# Altium schematic symbol library Schlib1.SchLib: 39 symbols (part 1 of 2)
Pins are listed as number, name and electrical type; pins without a type are passive.

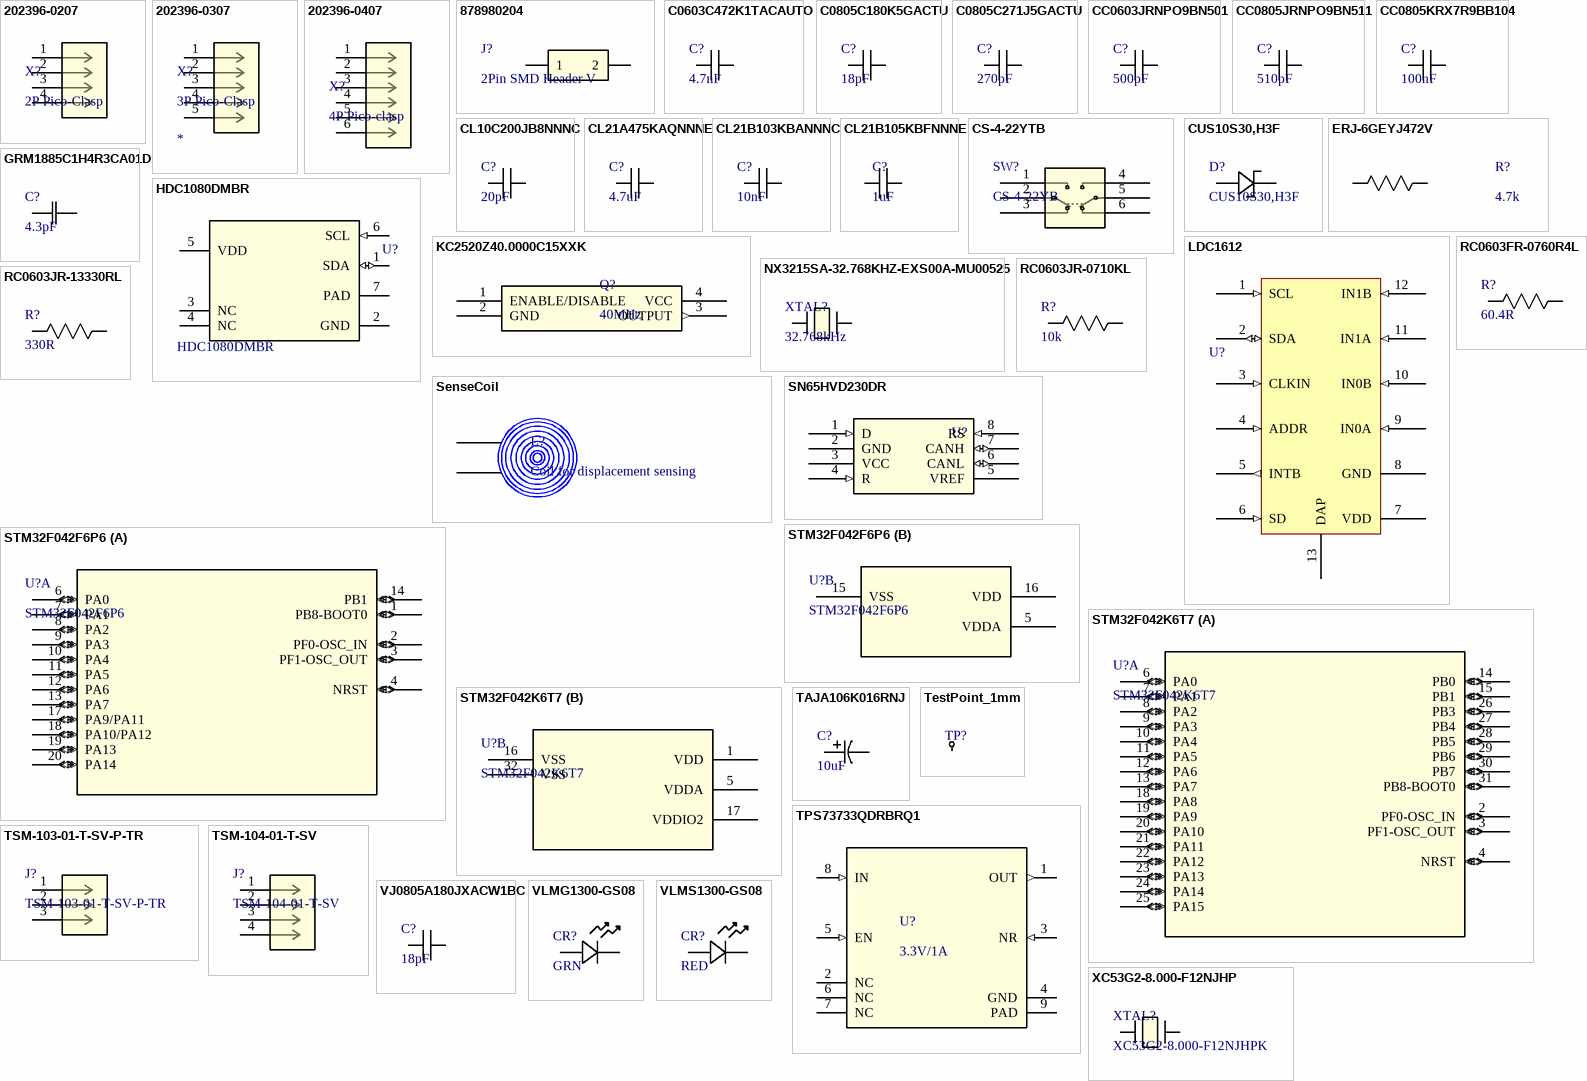
[diagram p0: symbols 202396-0207 to XC53G2-8.000-F12NJHP]

## 202396-0207
designator X?, comment 2P Pico-Clasp
Conn Shrouded Header (4 Sides) HDR 2 POS 1mm Solder RA Side Entry SMD Pico-Clasp™ T/R; Manufacturer: Molex; Manufacturer Part Number: 202396-0207; Number of Positions: 2; Value: 2023960207; Supplier: Digi-Key; Supplier Part Number: WM26783CT-ND; RoHS: No; Category: Headers and Wire Housings; Stock: 6710; Pricing: 1=0.97, 10=0.804, 100=0.6698 (USD); Mounting Technology: Surface Mount; Contact Material: Bronze; Contact Shape: Square; Insulation Material: Nylon; Insulation Color: Natural; Contact Finish - Mating: GOLD; Min Operating Temperature: -40°C; Max Operating Temperature: 105°C; Connector Type: Header; Fastening Type: Latch; Packaging: Tape and Reel; Number of Rows: 1; Termination: Solder; Series: Pico-Clasp 202396; Contact Type: Male Pin; Flammability Rating: UL94 V-0; ComponentLink1URL: http://datasheet.octopart.com/2023960207-Molex-datasheet-147952241.pdf?src-supplier=Digi-Key; ComponentLink1Description: http://datasheet.octopart.com/2023960207-Molex-datasheet-147952241.pdf?src-supplier=Digi-Key; ComponentLink2URL: https://www.molex.com/pdm_docs/sd/2023960207_sd.pdf?src-supplier=Digi-Key; ComponentLink2Description: https://www.molex.com/pdm_docs/sd/2023960207_sd.pdf?src-supplier=Digi-Key; ComponentLink3URL: http://datasheet.octopart.com/2023960207-Molex-datasheet-147952241.pdf?src-supplier=Newark; ComponentLink3Description: http://datasheet.octopart.com/2023960207-Molex-datasheet-147952241.pdf?src-supplier=Newark; ComponentLink4URL: http://datasheet.octopart.com/2023960207-Molex-datasheet-147952241.pdf?src-supplier=Farnell; ComponentLink4Description: http://datasheet.octopart.com/2023960207-Molex-datasheet-147952241.pdf?src-supplier=Farnell; ComponentLink5URL: http://datasheet.octopart.com/2023960207-Molex-datasheet-147952241.pdf?src-supplier=Avnet; ComponentLink5Description: http://datasheet.octopart.com/2023960207-Molex-datasheet-147952241.pdf?src-supplier=Avnet; ComponentLink6URL: http://datasheet.octopart.com/2023960207-Molex-datasheet-147952241.pdf?src-supplier=Arrow+Electronics; ComponentLink6Description: http://datasheet.octopart.com/2023960207-Molex-datasheet-147952241.pdf?src-supplier=Arrow+Electronics; ComponentLink7URL: http://datasheet.octopart.com/2023960207-Molex-datasheet-147952241.pdf?src-supplier=TTI; ComponentLink7Description: http://datasheet.octopart.com/2023960207-Molex-datasheet-147952241.pdf?src-supplier=TTI; ComponentLink8URL: http://datasheet.octopart.com/2023960207-Molex-datasheet-147952241.pdf?src-supplier=Electro+Sonic; ComponentLink8Description: http://datasheet.octopart.com/2023960207-Molex-datasheet-147952241.pdf?src-supplier=Electro+Sonic; ComponentLink9URL: https://datasheet.octopart.com/202396-0207-Molex-datasheet-134623761.pdf?src-supplier=TME; ComponentLink9Description: https://datasheet.octopart.com/202396-0207-Molex-datasheet-134623761.pdf?src-supplier=TME; LCSC Part#: C585325
footprint CON_2023960207
pins: 1, 2, 3, 4

## 202396-0307
designator X?, comment 3P Pico-Clasp
1.00mm Pitch, Pico-Clasp PCB Header, Single Row, Right-Angle, Surface Mount, 0.10µm Gold Plated, Friction Lock, 3...; Manufacturer: Molex; Manufacturer Part Number: 202396-0307; Value: 2023960307; Supplier: Digi-Key; Supplier Part Number: WM26784CT-ND; RoHS: No; Category: Headers and Wire Housings; Stock: 23675; Pricing: 1=1.01, 10=0.832, 100=0.6937 (USD); LCSC Part#: *
footprint CON_2023960307
pins: 1, 2, 3, 4, 5

## 202396-0407
designator X?, comment 4P Pico-clasp
Conn Shrouded Header (4 Sides) HDR 4 POS 1mm Solder RA SMD Pico-Clasp™ T/R; Manufacturer: Molex; Manufacturer Part Number: 202396-0407; Number of Positions: 4; Value: 2023960407; Supplier: Digi-Key; Supplier Part Number: WM26785CT-ND; RoHS: No; Category: Headers and Wire Housings; Stock: 4338; Pricing: 1=1.05, 10=0.869, 100=0.7238 (USD); Mounting Technology: Surface Mount; Contact Material: Bronze; Contact Shape: Square; Insulation Material: Nylon; Insulation Color: Natural; Contact Finish - Mating: GOLD; Min Operating Temperature: -40°C; Max Operating Temperature: 105°C; Connector Type: Header; Fastening Type: Latch; Packaging: Tape and Reel; Number of Rows: 1; Termination: Solder; Series: Pico-Clasp 202396; Contact Type: Male Pin; Flammability Rating: UL94 V-0; ComponentLink1URL: http://datasheet.octopart.com/202396-0407-Molex-datasheet-134623761.pdf?src-supplier=Avnet; ComponentLink1Description: http://datasheet.octopart.com/202396-0407-Molex-datasheet-134623761.pdf?src-supplier=Avnet; ComponentLink2URL: https://www.molex.com/pdm_docs/sd/2023960407_sd.pdf?src-supplier=Digi-Key; ComponentLink2Description: https://www.molex.com/pdm_docs/sd/2023960407_sd.pdf?src-supplier=Digi-Key; ComponentLink3URL: http://datasheet.octopart.com/202396-0407-Molex-datasheet-134623761.pdf?src-supplier=Digi-Key; ComponentLink3Description: http://datasheet.octopart.com/202396-0407-Molex-datasheet-134623761.pdf?src-supplier=Digi-Key; ComponentLink4URL: http://datasheet.octopart.com/202396-0407-Molex-datasheet-134623761.pdf?src-supplier=Farnell; ComponentLink4Description: http://datasheet.octopart.com/202396-0407-Molex-datasheet-134623761.pdf?src-supplier=Farnell; ComponentLink5URL: http://datasheet.octopart.com/202396-0407-Molex-datasheet-134623761.pdf?src-supplier=Newark; ComponentLink5Description: http://datasheet.octopart.com/202396-0407-Molex-datasheet-134623761.pdf?src-supplier=Newark; ComponentLink6URL: http://datasheet.octopart.com/202396-0407-Molex-datasheet-134623761.pdf?src-supplier=Mouser; ComponentLink6Description: http://datasheet.octopart.com/202396-0407-Molex-datasheet-134623761.pdf?src-supplier=Mouser; ComponentLink7URL: http://datasheet.octopart.com/202396-0407-Molex-datasheet-134623761.pdf?src-supplier=Heilind+Electronics; ComponentLink7Description: http://datasheet.octopart.com/202396-0407-Molex-datasheet-134623761.pdf?src-supplier=Heilind+Electronics; ComponentLink8URL: http://datasheet.octopart.com/202396-0407-Molex-datasheet-134623761.pdf?src-supplier=Electro+Sonic; ComponentLink8Description: http://datasheet.octopart.com/202396-0407-Molex-datasheet-134623761.pdf?src-supplier=Electro+Sonic; LCSC Part#: *
footprint CON_2023960407
pins: 1, 2, 3, 4, 5, 6

## 878980204
designator J?, comment 2Pin SMD Header V
CONN BREAKAWAY SMD HDR 2POS; Mfr_Name: Molex Connector Corporation; Manufacturer_Part_Number: 878980204; Manufacturer: Molex; Manufacturer Part Number: 87898-0204; Number of Positions: 2; Gender: Male; Current Rating: 3A; Voltage Rating: 250V; Pitch: 2.54mm; Value: 878980204; Copyright: Copyright (C) 2023 Ultra Librarian. All rights reserved.; RefDes: RefDes; Type: DEV; Supplier: Digi-Key; Supplier Part Number: WM9852-ND; RoHS: Yes; Category: Headers and Wire Housings; Stock: 21020; Pricing: 1=0.68, 10=0.57, 80=0.4435, 945=0.34847, 7200=0.30623, 14400=0.28088 (USD); Mounting Technology: Surface Mount; Contact Plating: Gold; Contact Material: Copper Alloy; Housing Material: Nylon; Min Operating Temperature: -55°C; Max Operating Temperature: 105°C; Number of Rows: 1; Packaging: Tray; Termination: SMD/SMT; Orientation: Straight; Series: 87898; Contact Gender: Male; Number of Contacts: 2; Contact Mating Length: 5.84mm; RoHS Compliant: Yes; ComponentLink1URL: https://datasheet.ciiva.com/5161/0878980204-pcb-headers-176698-5161963.pdf?src-supplier=Mouser; ComponentLink1Description: https://datasheet.ciiva.com/5161/0878980204-pcb-headers-176698-5161963.pdf?src-supplier=Mouser; ComponentLink2URL: https://datasheet.ciiva.com/16109/978120878980204-pcb-headers-16109649.pdf?src-supplier=Onlinecomponents.com; ComponentLink2Description: https://datasheet.ciiva.com/16109/978120878980204-pcb-headers-16109649.pdf?src-supplier=Onlinecomponents.com; ComponentLink3URL: https://datasheet.ciiva.com/30116/0878980204-pcb-headers-30116283.pdf?src-supplier=Onlinecomponents.com; ComponentLink3Description: https://datasheet.ciiva.com/30116/0878980204-pcb-headers-30116283.pdf?src-supplier=Onlinecomponents.com; LCSC Part#: C3331260
footprint 87898-0204_MOL
pins: 1, 2

## C0603C472K1TACAUTO
designator C?, comment 4.7nF
Cap Cer 0603 4.7NF 100VDC X8G; Manufacturer: KEMET; Manufacturer Part Number: C0603C472K1TACAUTO; Supplier: Digi-Key; Supplier Part Number: 399-C0603C472K1TACAUTOCT-ND; RoHS: No; Category: Ceramic Capacitors; Stock: 10636; Pricing: 1=0.42, 10=0.284, 50=0.2264, 100=0.1869, 500=0.14604, 1000=0.12414 (USD); Value: 4.7nF 100V; LCSC Part#: C3882427; Package: 0603
footprint C0603
pins: 1, 2

## C0805C180K5GACTU
designator C?, comment 18pF
Multilayer Ceramic Capacitor, 18 pF, 50 V, ± 10%, C0G (NP0), 0805 [2012 Metric]; Manufacturer: KEMET; Manufacturer Part Number: C0805C180K5GACTU; Material: 4241ConductorMaterial; Value: 18pF 50V; Voltage Rating: 50V; Dissipation Factor: 0.1%; Temperature Coefficient: 30ppm/°C; Supplier: Digi-Key; Supplier Part Number: 399-C0805C180K5GAC7800CT-ND; RoHS: Yes; Category: Ceramic Capacitors; Stock: 62775; Pricing: 1=0.1, 10=0.069, 50=0.0394, 100=0.0305, 500=0.02298, 1000=0.01805 (USD); Mounting Technology: Surface Mount; Case/Package: 0805; Case Code (Metric): 2012; Case Code (Imperial): 0805; Contact Plating: Tin,Matte; Dielectric Material: 4241ConductorMaterial; Min Operating Temperature: -55°C; Max Operating Temperature: 125°C; Tolerance: 10%; Dielectric: C0G; Package Quantity: 1; Packaging: Tape and Reel; Voltage Rating (DC): 50V; Termination: SMD/SMT; Series: C; Construction: Flat; Length: 2mm; Width: 0.049inch; Height: 0.78mm; Depth: 1.25mm; Thickness: 0.035inch; Lead Pitch: 0.75mm; Radiation Hardening: No; Reach SVHC Compliant: No; Lead Free: 5697LeadFree; ComponentLink1URL: https://datasheet.ciiva.com/5412/kem-c1003-c0g-smd-356956-5412921.pdf?src-supplier=Mouser; ComponentLink1Description: https://datasheet.ciiva.com/5412/kem-c1003-c0g-smd-356956-5412921.pdf?src-supplier=Mouser; ComponentLink2URL: https://datasheet.ciiva.com/26847/getdatasheetpartid-742486-26847863.pdf?src-supplier=Verical; ComponentLink2Description: https://datasheet.ciiva.com/26847/getdatasheetpartid-742486-26847863.pdf?src-supplier=Verical; LCSC Part#: C3843327; Package: 0805
footprint CAP0805
pins: 1, 2

## C0805C271J5GACTU
designator C?, comment 270pF
Multilayer Ceramic Capacitor, 270 pF, 50 V, ± 5%, C0G (NP0), 0805 [2012 Metric]; Manufacturer: KEMET; Manufacturer Part Number: C0805C271J5GACTU; Material: 4241ConductorMaterial; Value: 270pF 50V; Voltage Rating: 50V; Dissipation Factor: 0.1%; Temperature Coefficient: 30ppm/°C; Supplier: Digi-Key; Supplier Part Number: 399-C0805C271J5GAC7800CT-ND; RoHS: Yes; Category: Ceramic Capacitors; Stock: 485495; Pricing: 1=0.11, 10=0.075, 50=0.045, 100=0.0355, 500=0.02618, 1000=0.02168 (USD); Mounting Technology: Surface Mount,PCB; Case/Package: 0805; Case Code (Metric): 2012; Case Code (Imperial): 0805; Dielectric Material: Ceramic; Min Operating Temperature: -55°C; Max Operating Temperature: 125°C; Tolerance: 5%; Dielectric: C0G; Packaging: Tape and Reel; Voltage Rating (DC): 50V; Package Quantity: 1; Termination: SMD/SMT; Series: C; Voltage: 50V; Construction: Flat; Voltage Rating (AC): 50V; Length: 2mm; Width: 0.049inch; Height: 0.78mm; Depth: 1.25mm; Thickness: 0.035inch; Lead Pitch: 0.75mm; Radiation Hardening: No; Reach SVHC Compliant: No; RoHS Compliant: Yes; Lead Free: 5697LeadFree; ComponentLink1URL: https://datasheet.ciiva.com/144/docfinderpartnumber-c0805c271j5gactu-144932.pdf?src-supplier=Digi-Key; ComponentLink1Description: https://datasheet.ciiva.com/144/docfinderpartnumber-c0805c271j5gactu-144932.pdf?src-supplier=Digi-Key; ComponentLink2URL: https://datasheet.ciiva.com/7842/f9080b-0402-series-c0g-7842587.pdf?src-supplier=Element14; ComponentLink2Description: https://datasheet.ciiva.com/7842/f9080b-0402-series-c0g-7842587.pdf?src-supplier=Element14; ComponentLink3URL: https://datasheet.ciiva.com/7842/40889-7842303.pdf?src-supplier=Element14; ComponentLink3Description: https://datasheet.ciiva.com/7842/40889-7842303.pdf?src-supplier=Element14; ComponentLink4URL: https://datasheet.ciiva.com/28696/1789732-28696031.pdf?src-supplier=Element14; ComponentLink4Description: https://datasheet.ciiva.com/28696/1789732-28696031.pdf?src-supplier=Element14; ComponentLink5URL: https://datasheet.ciiva.com/14592/70095383-14592165.pdf?src-supplier=Allied+Electronics; ComponentLink5Description: https://datasheet.ciiva.com/14592/70095383-14592165.pdf?src-supplier=Allied+Electronics; ComponentLink6URL: https://datasheet.ciiva.com/7842/40889-7842302.pdf?src-supplier=Element14; ComponentLink6Description: https://datasheet.ciiva.com/7842/40889-7842302.pdf?src-supplier=Element14; ComponentLink7URL: https://datasheet.ciiva.com/2988/kem-c1003-c0g-smd-2988644.pdf?src-supplier=Avnet; ComponentLink7Description: https://datasheet.ciiva.com/2988/kem-c1003-c0g-smd-2988644.pdf?src-supplier=Avnet; ComponentLink8URL: https://datasheet.ciiva.com/5410/kem-c1003-c0g-smd-356956-5410648.pdf?src-supplier=Mouser; ComponentLink8Description: https://datasheet.ciiva.com/5410/kem-c1003-c0g-smd-356956-5410648.pdf?src-supplier=Mouser; LCSC Part#: C2169021
footprint CAP0805
pins: 1, 2

## CC0603JRNPO9BN501
designator C?, comment 500pF
Multilayer Ceramic Capacitor, 500 pF, 50 V, ± 5%, C0G (NP0), 0603 [1608 Metric]; Manufacturer: Yageo; Manufacturer Part Number: CC0603JRNPO9BN501; Value: 500pF 50V; Voltage Rating (DC): 50V; Supplier: Digi-Key; Supplier Part Number: 13-CC0603JRNPO9BN501CT-ND; RoHS: Yes; Category: Ceramic Capacitors; Stock: 10823; Pricing: 1=0.11, 10=0.077, 50=0.0458, 100=0.036, 500=0.02662, 1000=0.02203 (USD); Mounting Technology: Surface Mount; Case/Package: 0603; Case Code (Imperial): 0603; Case Code (Metric): 1608; Weight: 7.1E-05oz; Min Operating Temperature: -55°C; Max Operating Temperature: 125°C; Tolerance: 5%; Packaging: Tape and Reel; Dielectric: C0G; Voltage Rating: 50V; Termination: SMD/SMT; Series: CC; Length: 0.063inch; Width: 0.031inch; Thickness: 0.035inch; Halogen Free: 5694HalogenFree; Lead Free: 5697LeadFree; ComponentLink1URL: http://www.mouser.com/ds/2/447/Yageo_UPY-GP_NP0_16V-to-50V_9-358835.pdf?src-supplier=Mouser; ComponentLink1Description: http://www.mouser.com/ds/2/447/Yageo_UPY-GP_NP0_16V-to-50V_9-358835.pdf?src-supplier=Mouser; ComponentLink2URL: http://www.yageo.com/documents/recent/UPY-GP_NP0_16V-to-50V_16.pdf?src-supplier=Digi-Key; ComponentLink2Description: http://www.yageo.com/documents/recent/UPY-GP_NP0_16V-to-50V_16.pdf?src-supplier=Digi-Key; LCSC Part#: C3879676
footprint C0603
pins: 1, 2

## CC0805JRNPO9BN511
designator C?, comment 510pF
0805 510 pF 50 V ±5 % Tolerance NP0 SMT Multilayer Ceramic Capacitor; Manufacturer: Yageo; Manufacturer Part Number: CC0805JRNPO9BN511; Tolerance: 5%; Voltage Rating (DC): 50V; Supplier: Digi-Key; Supplier Part Number: 311-4240-1-ND; RoHS: Yes; Category: Ceramic Capacitors; Stock: 4065; Pricing: 1=0.18, 10=0.119, 50=0.071, 100=0.0559, 500=0.04124, 1000=0.03415 (USD); Mounting Technology: Surface Mount; Case/Package: 0805; Case Code (Imperial): 0805; Case Code (Metric): 2012; Weight: 0.000194oz; Min Operating Temperature: -55°C; Max Operating Temperature: 125°C; Value: 510pF 50V; Packaging: Tape and Reel; Voltage Rating: 50V; Dielectric: NP0; Termination: SMD/SMT; Series: CC; Length: 0.079inch; Width: 0.049inch; Thickness: 0.028inch; Lead Free: Lead Free; ComponentLink1URL: http://www.mouser.com/ds/2/447/Yageo_UPY-GP_NP0_16V-to-50V_9-358835.pdf?src-supplier=Mouser; ComponentLink1Description: http://www.mouser.com/ds/2/447/Yageo_UPY-GP_NP0_16V-to-50V_9-358835.pdf?src-supplier=Mouser; ComponentLink2URL: https://www.yageo.com/upload/media/product/productsearch/datasheet/mlcc/UPY-GP_NP0_16V-to-50V_18.pdf?src-supplier=Digi-Key; ComponentLink2Description: https://www.yageo.com/upload/media/product/productsearch/datasheet/mlcc/UPY-GP_NP0_16V-to-50V_18.pdf?src-supplier=Digi-Key; ComponentLink3URL: http://www.yageo.com/documents/recent/UPY-GP_NP0_16V-to-50V_16.pdf?src-supplier=Digi-Key; ComponentLink3Description: http://www.yageo.com/documents/recent/UPY-GP_NP0_16V-to-50V_16.pdf?src-supplier=Digi-Key; ComponentLink4URL: http://www.yageo.com/exep/pages/download/literatures/ProductSelectionGuide%202014_Final_2.pdf?src-supplier=Digi-Key; ComponentLink4Description: http://www.yageo.com/exep/pages/download/literatures/ProductSelectionGuide%202014_Final_2.pdf?src-supplier=Digi-Key; ComponentLink5URL: http://www.yageo.com/documents/recent/UPY-GP_NP0_16V-to-50V_9.pdf?src-supplier=Future+Electronics; ComponentLink5Description: http://www.yageo.com/documents/recent/UPY-GP_NP0_16V-to-50V_9.pdf?src-supplier=Future+Electronics; ComponentLink6URL: https://datasheet.octopart.com/CC0805JRNPO9BN511-Yageo-datasheet-151948684.pdf?src-supplier=Newark; ComponentLink6Description: https://datasheet.octopart.com/CC0805JRNPO9BN511-Yageo-datasheet-151948684.pdf?src-supplier=Newark; LCSC Part#: C309486
footprint CAP0805
pins: 1, 2

## CC0805KRX7R9BB104
designator C?, comment 100nF
Multilayer Ceramic Capacitor, 0.1 uF, 50 V, ± 10%, X7R, 0805 [2012 Metric]; Manufacturer: Yageo; Manufacturer Part Number: CC0805KRX7R9BB104; Value: 100nF 50V; Voltage: 50V; Insulation Resistance: 100GR; Supplier: Digi-Key; Supplier Part Number: 311-1140-1-ND; RoHS: Yes; Category: Ceramic Capacitors; Stock: 6426664; Pricing: 1=0.1, 10=0.07, 50=0.0418, 100=0.0329, 500=0.02428, 1000=0.0201 (USD); Mounting Technology: Surface Mount; Case/Package: 0805; Pins: 2; Case Code (Metric): 2012; Case Code (Imperial): 0805; Material: Ceramic; Min Operating Temperature: -55°C; Max Operating Temperature: 125°C; Tolerance: 10%; Dielectric: X7R; Packaging: Tape and Reel; Voltage Rating: 50V; Package Quantity: 4000; Termination: SMD/SMT; Series: CC; Length: 2mm; Height: 0.85mm; Depth: 1.25mm; Radiation Hardening: No; RoHS Compliant: Yes; Reach SVHC Compliant: No; Lead Free: Lead Free; Halogen Free: Halogen Free; ComponentLink1URL: https://datasheet.ciiva.com/11786/0900766b80d84f1d-11786009.pdf?src-supplier=Rs; ComponentLink1Description: https://datasheet.ciiva.com/11786/0900766b80d84f1d-11786009.pdf?src-supplier=Rs; ComponentLink2URL: https://datasheet.ciiva.com/46393/1734573-46393307.pdf?src-supplier=Element14; ComponentLink2Description: https://datasheet.ciiva.com/46393/1734573-46393307.pdf?src-supplier=Element14; ComponentLink3URL: https://datasheet.ciiva.com/155/mlccorderingcode-155930.pdf?src-supplier=Digi-Key; ComponentLink3Description: https://datasheet.ciiva.com/155/mlccorderingcode-155930.pdf?src-supplier=Digi-Key; ComponentLink4URL: https://datasheet.ciiva.com/155/mlccorderingcode-155929.pdf?src-supplier=Digi-Key; ComponentLink4Description: https://datasheet.ciiva.com/155/mlccorderingcode-155929.pdf?src-supplier=Digi-Key; ComponentLink5URL: https://datasheet.ciiva.com/155/mlccorderingcode-155931.pdf?src-supplier=Digi-Key; ComponentLink5Description: https://datasheet.ciiva.com/155/mlccorderingcode-155931.pdf?src-supplier=Digi-Key; ComponentLink6URL: https://datasheet.ciiva.com/11464/upy-gphc-x7r-6-3v-to-50v-8-11464757.pdf?src-supplier=Avnet; ComponentLink6Description: https://datasheet.ciiva.com/11464/upy-gphc-x7r-6-3v-to-50v-8-11464757.pdf?src-supplier=Avnet; ComponentLink7URL: https://datasheet.ciiva.com/28450/1489800-28450805.pdf?src-supplier=Element14; ComponentLink7Description: https://datasheet.ciiva.com/28450/1489800-28450805.pdf?src-supplier=Element14; ComponentLink8URL: https://datasheet.ciiva.com/29242/445210-da-01-en-kerko-chip-0805-x7r-0-1uf-10proz-50vg-29242074.pdf?src-supplier=Conrad; ComponentLink8Description: https://datasheet.ciiva.com/29242/445210-da-01-en-kerko-chip-0805-x7r-0-1uf-10proz-50vg-29242074.pdf?src-supplier=Conrad; LCSC Part#: C49678
footprint CAP0805
pins: 1, 2

## CL10C200JB8NNNC
designator C?, comment 20pF
Multilayer Ceramic Capacitor, 20 pF, 50 V, ± 5%, C0G (NP0), 0603 [1608 Metric]; Manufacturer: Samsung; Manufacturer Part Number: CL10C200JB8NNNC; Value: 20pF 50V; Voltage Rating: 50V; Temperature Coefficient: 300ppm/°C; Supplier: Digi-Key; Supplier Part Number: 1276-1187-1-ND; RoHS: Yes; Category: Ceramic Capacitors; Stock: 379574; Pricing: 1=0.1, 10=0.041, 50=0.0238, 100=0.0184, 500=0.01386, 1000=0.01089 (USD); Mounting Technology: Surface Mount; Case/Package: 0603; Case Code (Metric): 1608; Case Code (Imperial): 0603; Min Operating Temperature: -55°C; Max Operating Temperature: 125°C; Tolerance: 5%; Dielectric: C0G; Package Quantity: 1; Packaging: Tape and Reel; Voltage: 50V; Series: CL; Construction: Flat; Voltage Rating (DC): 50V; Length: 1.6mm; Width: 0.031inch; Height: 0.8mm; Thickness: 0.035inch; Depth: 0.8mm; Radiation Hardening: No; RoHS Compliant: Yes; ComponentLink1URL: https://datasheet.ciiva.com/26877/getdatasheetpartid-640634-26877974.pdf?src-supplier=Verical; ComponentLink1Description: https://datasheet.ciiva.com/26877/getdatasheetpartid-640634-26877974.pdf?src-supplier=Verical; ComponentLink2URL: https://datasheet.ciiva.com/26310/mlcc-catalogdownload2013-eng-26310315.pdf?src-supplier=Distrelec; ComponentLink2Description: https://datasheet.ciiva.com/26310/mlcc-catalogdownload2013-eng-26310315.pdf?src-supplier=Distrelec; LCSC Part#: C1648
footprint C0603
pins: 1, 2

## CL21A475KAQNNNE
designator C?, comment 4.7uF
Multilayer Ceramic Capacitor, 4.7 uF, 25 V, ± 10%, X5R, 0805 [2012 Metric]; Manufacturer: Samsung; Manufacturer Part Number: CL21A475KAQNNNE; Value: 4.7uF 25V; Voltage Rating: 25V; Supplier: Digi-Key; Supplier Part Number: 1276-1244-1-ND; RoHS: Yes; Category: Ceramic Capacitors; Stock: 3502142; Pricing: 1=0.1, 10=0.069, 50=0.0414, 100=0.0326, 500=0.02408, 1000=0.01994 (USD); Mounting Technology: Surface Mount; Case/Package: 0805; Case Code (Metric): 2012; Case Code (Imperial): 0805; Material: Ceramic; Min Operating Temperature: -55°C; Max Operating Temperature: 85°C; Packaging: Tape and Reel; Tolerance: 10%; Dielectric: X5R; Voltage Rating (DC): 25V; Series: CL; Construction: Flat; Length: 2mm; Height: 1.25mm; Depth: 1.25mm; Radiation Hardening: No; Lead Free: Lead Free; RoHS Compliant: Yes; ComponentLink1URL: https://datasheet.ciiva.com/25798/cl21a475kaqnnne-25798882.pdf?src-supplier=Digi-Key; ComponentLink1Description: https://datasheet.ciiva.com/25798/cl21a475kaqnnne-25798882.pdf?src-supplier=Digi-Key; LCSC Part#: C1779
footprint CAP0805
pins: 1, 2

## CL21B103KBANNNC
designator C?, comment 10nF
Multilayer Ceramic Capacitor, 0.01 uF, 50 V, ± 10%, X7R, 0805 [2012 Metric]; Manufacturer: Samsung; Manufacturer Part Number: CL21B103KBANNNC; Value: 10nF 50V; Voltage: 50V; Supplier: Digi-Key; Supplier Part Number: 1276-1015-1-ND; RoHS: Yes; Category: Ceramic Capacitors; Stock: 1583858; Pricing: 1=0.1, 10=0.04, 50=0.023, 100=0.0178, 500=0.01344, 1000=0.01055 (USD); Mounting Technology: Surface Mount; Case/Package: 0805; Pins: 2; Case Code (Metric): 2012; Case Code (Imperial): 0805; Material: Ceramic; Min Operating Temperature: -55°C; Max Operating Temperature: 125°C; Tolerance: 10%; Dielectric: X7R; Voltage Rating (DC): 50V; Packaging: Tape and Reel; Voltage Rating: 50V; Series: CL; Construction: Flat; Length: 2mm; Height: 0.65mm; Depth: 1.25mm; Radiation Hardening: No; Lead Free: Lead Free; RoHS Compliant: Yes; ComponentLink1URL: https://datasheet.ciiva.com/25709/cl21b103kbannnc-25709781.pdf?src-supplier=Digi-Key; ComponentLink1Description: https://datasheet.ciiva.com/25709/cl21b103kbannnc-25709781.pdf?src-supplier=Digi-Key; ComponentLink2URL: https://datasheet.ciiva.com/29199/455082-da-01-en-vs-kondensator-0805-29199459.pdf?src-supplier=Conrad; ComponentLink2Description: https://datasheet.ciiva.com/29199/455082-da-01-en-vs-kondensator-0805-29199459.pdf?src-supplier=Conrad; LCSC Part#: C1710
footprint CAP0805
pins: 1, 2

## CL21B105KBFNNNE
designator C?, comment 1uF
Multilayer Ceramic Capacitor, 1 uF, 50 V, ± 10%, X7R, 0805 [2012 Metric]; Manufacturer: Samsung; Manufacturer Part Number: CL21B105KBFNNNE; Value: 1uF 50V; Voltage Rating: 50V; Dielectric Material: Tantalum; Temperature Coefficient: 0ppm/°C; Supplier: Digi-Key; Supplier Part Number: 1276-1029-1-ND; RoHS: Yes; Category: Ceramic Capacitors; Stock: 1577316; Pricing: 1=0.11, 10=0.075, 50=0.045, 100=0.0354, 500=0.02616, 1000=0.02165 (USD); Mounting Technology: Surface Mount; Case/Package: 0805; Case Code (Metric): 2012; Case Code (Imperial): 0805; Material: Ceramic; Min Operating Temperature: -55°C; Max Operating Temperature: 125°C; Tolerance: 10%; Packaging: Tape and Reel; Package Quantity: 1; Dielectric: X7R; Voltage: 50V; Series: CL; Construction: Flat; Voltage Rating (DC): 50V; Length: 2mm; Width: 0.049inch; Height: 1.25mm; Thickness: 0.053inch; Depth: 1.25mm; Radiation Hardening: No; RoHS Compliant: Yes; ComponentLink1URL: https://datasheet.ciiva.com/25800/cl21b105kbfnnne-25800291.pdf?src-supplier=Digi-Key; ComponentLink1Description: https://datasheet.ciiva.com/25800/cl21b105kbfnnne-25800291.pdf?src-supplier=Digi-Key; Pins: 2; Termination: SMD/SMT; Lead Free: Lead Free; ComponentLink2URL: https://datasheet.ciiva.com/16511/vjw1bcbascomseries-16511277.pdf?src-supplier=Future+Electronics; ComponentLink2Description: https://datasheet.ciiva.com/16511/vjw1bcbascomseries-16511277.pdf?src-supplier=Future+Electronics; ComponentLink3URL: https://datasheet.ciiva.com/176/vjw1bcbascomseries-176732.pdf?src-supplier=Digi-Key; ComponentLink3Description: https://datasheet.ciiva.com/176/vjw1bcbascomseries-176732.pdf?src-supplier=Digi-Key; LCSC Part#: C28323
footprint CAP0805
pins: 1, 2

## CS-4-22YTB
designator SW?, comment CS-4-22YB
Switch Rotary ON OFF ON DPDT 2 Flush Screwdriver Gull Wing 0.1A 16VAC 16VDC 0.5VA T/R; Mfr_Name: Nidec Copal Electronics; Manufacturer: Nidec Copal; Manufacturer Part Number: CS-4-22YTB; Body Material: Epoxy; Number of Positions: 2; Voltage Rating (DC): 16V; Electrical Life: 200Cycles; Washable: Yes; Value: CS-4-22YTB; Copyright: Copyright (C) 2023 Ultra Librarian. All rights reserved.; Manufacturer_Part_Number: CS-4-22YB; RefDes: RefDes; Type: DEV; Supplier: Digi-Key; Supplier Part Number: 563-1040-1-ND; RoHS: Yes; Category: DIP Switches; Stock: 6353; Pricing: 1=2.85, 10=2.683, 25=2.4392, 100=2.1139, 250=1.91648 (USD); Mounting Technology: Surface Mount; Contact Material: Copper Alloy; Contact Plating: Gold; Min Operating Temperature: -25°C; Max Operating Temperature: 70°C; Throw Configuration: DPDT; Orientation: Vertical; Packaging: Cut Tape; Termination: Gull Wing; Series: CS-4; Actuator Type: Rotary; Lead Free: Lead Free; RoHS Compliant: Yes; ComponentLink1URL: https://datasheet.ciiva.com/2864/cs-4-2864257.pdf?src-supplier=Digi-Key; ComponentLink1Description: https://datasheet.ciiva.com/2864/cs-4-2864257.pdf?src-supplier=Digi-Key; ComponentLink2URL: https://datasheet.ciiva.com/2864/cs-4-2864258.pdf?src-supplier=Digi-Key; ComponentLink2Description: https://datasheet.ciiva.com/2864/cs-4-2864258.pdf?src-supplier=Digi-Key; ComponentLink3URL: https://datasheet.ciiva.com/2864/cs-4-2864259.pdf?src-supplier=Digi-Key; ComponentLink3Description: https://datasheet.ciiva.com/2864/cs-4-2864259.pdf?src-supplier=Digi-Key; LCSC Part#: C2921707
footprint CS-4-22YB_NDC
pins: 1, 2, 3, 4, 5, 6

## CUS10S30,H3F
designator D?
Rectifier Diode, Schottky, 1 Phase, 1 Element, 1A, 30V V(RRM), Silicon; Mfr_Name: Toshiba Electronic Devices & Storage Corp.; Manufacturer: Toshiba; Type: DEV; Max Reverse Current: 500uA; Peak Non-Repetitive Surge Current: 5A; Copyright: Copyright (C) 2023 Ultra Librarian. All rights reserved.; Manufacturer_Part_Number: CUS10S30,H3F; RefDes: RefDes; Supplier: Digi-Key; Supplier Part Number: CUS10S30H3FCT-ND; Manufacturer Part Number: CUS10S30,H3F; RoHS: Yes; Category: Rectifier Diodes; Stock: 308991; Pricing: 1=0.35, 10=0.243, 100=0.1228, 500=0.1002, 1000=0.07434 (USD); Mounting Technology: Surface Mount; Case/Package: SOD; Pins: 2; Contact Plating: Tin,Silver; Min Operating Temperature: -55°C; Max Operating Temperature: 125°C; Packaging: Cut Tape; Average Rectified Current: 1A; Max Reverse Voltage (DC): 30V; Series: -; RoHS Compliant: Yes; ComponentLink1URL: http://toshiba.semicon-storage.com/info/lookup.jsp?pid=CUS10S30&amp;lang=en&src-supplier=Mouser; ComponentLink1Description: http://toshiba.semicon-storage.com/info/lookup.jsp?pid=CUS10S30&amp;lang=en&src-supplier=Mouser; ComponentLink2URL: http://toshiba.semicon-storage.com/info/docget.jsp?did=14077&prodName=CUS10S30&src-supplier=Avnet; ComponentLink2Description: http://toshiba.semicon-storage.com/info/docget.jsp?did=14077&prodName=CUS10S30&src-supplier=Avnet; ComponentLink3URL: https://toshiba.semicon-storage.com/info/docget.jsp?did=14077&prodName=CUS10S30&src-supplier=Digi-Key; ComponentLink3Description: https://toshiba.semicon-storage.com/info/docget.jsp?did=14077&prodName=CUS10S30&src-supplier=Digi-Key; LCSC Part#: C146335; Value: CUS10S30,H3F
footprint USC_TOS
pins: 1 cathode, 2 anode

## ERJ-6GEYJ472V
designator R?, comment 4.7k
Res Thick Film 0805 4.7K Ohm 5% 1/8W ±200ppm/°C Molded SMD Punched Carrier T/R; Manufacturer: Panasonic; Manufacturer Part Number: ERJ-6GEYJ472V; Value: 4.7kR; Power Rating: 125mW; Voltage Rating: 150V; Supplier: Digi-Key; Supplier Part Number: P4.7KACT-ND; RoHS: Yes; Category: Chip SMD Resistors; Stock: 148739; Pricing: 1=0.1, 10=0.038, 50=0.0244, 100=0.0206, 500=0.01434, 1000=0.01248 (USD); Mounting Technology: Surface Mount; Case/Package: 0805; Case Code (Metric): 2012; Case Code (Imperial): 0805; Contact Plating: Tin; Min Operating Temperature: -55°C; Max Operating Temperature: 155°C; Tolerance: 5%; Packaging: Tape and Reel; Package Quantity: 1; Termination: SMD/SMT; Max Power Dissipation: 125mW; Series: ERJ; Resistance Tolerance: 5%; Resistor Type: Thick Film; Number of Terminations: 2; Temperature Coefficient: 200ppm/°C; Construction: Rectangular; Technology: THICK FILM; Voltage Rating (DC): 150V; Length: 2mm; Width: 1.25mm; Height: 0.6mm; Depth: 1.25mm; Radiation Hardening: No; Reach SVHC Compliant: No; RoHS Compliant: Yes; Military Standard: Not; Lead Free: Lead Free; LCSC Part#: C230645
footprint RES0805
pins: 1, 2

## Fiducial
designator *  (value not drawn)
footprint FID

## GRM1885C1H4R3CA01D
designator C?, comment 4.3pF
0603 4.3 pF 50 V ±0.25 pF Tolerance C0G SMT Multilayer Ceramic Capacitor; Mfr_Name: Murata; Manufacturer_Part_Number: GRM1885C1H100JA01D; Manufacturer Part Number: GRM1885C1H4R3CA01D; Type: DEV; Voltage Rating: 50V; Copyright: Copyright (C) 2023 Ultra Librarian. All rights reserved.; RefDes: RefDes; Supplier: Digi-Key; Supplier Part Number: 490-13349-1-ND; Manufacturer: Murata; RoHS: Yes; Category: Ceramic Capacitors; Stock: 55803; Pricing: 1=0.13, 10=0.085, 50=0.0508, 100=0.04, 500=0.02954, 1000=0.02445 (USD); Mounting Technology: Surface Mount; Case/Package: 0603; Case Code (Metric): 1608; Case Code (Imperial): 0603; Weight: 0.000222oz; Min Operating Temperature: -55°C; Max Operating Temperature: 125°C; Package Quantity: 4000; Packaging: Tape and Reel; Value: 4.3pF 50V; Dielectric: C0G; Termination: SMD/SMT; Voltage Rating (DC): 50V; Series: GRM; Length: 0.063inch; Width: 0.031inch; Thickness: 0.035inch; Lead Free: Lead Free; RoHS Compliant: Yes; ComponentLink1URL: http://www.mouser.com/ds/2/281/c02e-2905.pdf?src-supplier=Mouser; ComponentLink1Description: http://www.mouser.com/ds/2/281/c02e-2905.pdf?src-supplier=Mouser; ComponentLink2URL: https://datasheet.octopart.com/GRM1885C1H4R3CA01D-Murata-datasheet-22122223.pdf?src-supplier=Future+Electronics; ComponentLink2Description: https://datasheet.octopart.com/GRM1885C1H4R3CA01D-Murata-datasheet-22122223.pdf?src-supplier=Future+Electronics; ComponentLink3URL: https://www.murata.com/~/media/webrenewal/support/library/catalog/products/capacitor/mlcc/c02e.ashx?la=en-us&src-supplier=Digi-Key; ComponentLink3Description: https://www.murata.com/~/media/webrenewal/support/library/catalog/products/capacitor/mlcc/c02e.ashx?la=en-us&src-supplier=Digi-Key; ComponentLink4URL: http://search.murata.co.jp/Ceramy/image/img/A01X/partnumbering_e_01.pdf?src-supplier=Digi-Key; ComponentLink4Description: http://search.murata.co.jp/Ceramy/image/img/A01X/partnumbering_e_01.pdf?src-supplier=Digi-Key; ComponentLink5URL: http://psearch.en.murata.com/capacitor/product/GRM1885C1H4R3CA01%23.pdf?src-supplier=Avnet; ComponentLink5Description: http://psearch.en.murata.com/capacitor/product/GRM1885C1H4R3CA01%23.pdf?src-supplier=Avnet; LCSC Part#: C3894110
footprint C0603
pins: 1, 2

## HDC1080DMBR
designator U?, comment value HDC1080DMBR  (hidden comment: I2C Humidity/Temp Sensor)
SENSOR HUMI/TEMP 3.3V I2C 4% SMD; Manufacturer: Texas Instruments; Response Time: 15s; Accuracy: 2%; Sensor Type: Temperature; Supplier: Digi-Key; Supplier Part Number: 296-46272-6-ND; Manufacturer Part Number: HDC1080DMBR; RoHS: Yes; Category: Integrated Circuits (ICs); Stock: 8356; Pricing: 1=3.68, 10=2.759, 25=2.4524, 50=2.3296, 100=2.2684, 500=1.90052, 1000=1.7779 (USD); Mounting Technology: Surface Mount; Min Operating Temperature: -40°C; Max Operating Temperature: 125°C; Output Type: I2C; Series: -; Packaging: Cut Tape; Interface: I2C; Lead Free: Lead Free; RoHS Compliant: Yes; ComponentLink1URL: http://www.ti.com/lit/ds/symlink/hdc1080.pdf?src-supplier=Digi-Key; ComponentLink1Description: http://www.ti.com/lit/ds/symlink/hdc1080.pdf?src-supplier=Digi-Key; ComponentLink2URL: http://www.ti.com/general/docs/suppproductinfo.tsp?distId=10&amp;gotoUrl=http%3A%2F%2Fwww.ti.com%2Flit%2Fgpn%2Fhdc1080&src-supplier=Digi-Key; ComponentLink2Description: http://www.ti.com/general/docs/suppproductinfo.tsp?distId=10&amp;gotoUrl=http%3A%2F%2Fwww.ti.com%2Flit%2Fgpn%2Fhdc1080&src-supplier=Digi-Key; LCSC Part#: C82227
footprint WSON_DMB6
pins: 1 SDA (io), 2 GND (power), 3 NC, 4 NC, 5 VDD (power), 6 SCL (in), 7 PAD (power)

## KC2520Z40.0000C15XXK
designator Q?, comment 40MHz
Xtal Osc Xo 40.0000MHZ Cmos SMD; Manufacturer: Kyocera AVX; Manufacturer Part Number: KC2520Z40.0000C15XXK; Value: KC2520Z40.0000C15XXK; Supplier: Digi-Key; Supplier Part Number: 478-KC2520Z40.0000C15XXKCT-ND; RoHS: No; Category: Oscillators; Stock: 9175; Pricing: 1=1.16, 10=1.107, 50=1.0816, 100=0.927, 500=0.90124, 1000=0.75962 (USD); LCSC Part#: C1857241
footprint KC2520Z_KYO
pins: 1 ENABLE/DISABLE, 2 GND (power), 3 OUTPUT (out), 4 VCC (power)

## LDC1612
designator U?, comment Inductive Sensor 2Ch  (value not drawn)
2-Ch, 28-bit, high-resolution Inductance to digital converter 12-WSON -40 to 125; Manufacturer: Texas Instruments; Manufacturer Part Number: LDC1612DNTR; Interface: I2C; Number of Inputs: 2; Value: LDC1612DNTR; Package: WSON-12; Supplier: Digi-Key; Supplier Part Number: 296-LDC1612DNCT-ND; RoHS: Yes; Category: Integrated Circuits (ICs); Stock: 21433; Pricing: 1=3.68, 10=3.305, 25=3.1248, 100=2.7081, 250=2.5692, 500=2.30532, 1000=1.94425 (USD); Mounting Technology: Surface Mount; Pins: 12; Min Operating Temperature: -40°C; Max Operating Temperature: 125°C; Series: *; Packaging: Tape and Reel; Number of Channels: 2; Lead Free: Lead Free; RoHS Compliant: Yes; ComponentLink2URL: http://www.ti.com/general/docs/suppproductinfo.tsp?distId=10&amp;gotoUrl=http%3A%2F%2Fwww.ti.com%2Flit%2Fgpn%2Fldc1612&src-supplier=Digi-Key; ComponentLink2Description: http://www.ti.com/general/docs/suppproductinfo.tsp?distId=10&amp;gotoUrl=http%3A%2F%2Fwww.ti.com%2Flit%2Fgpn%2Fldc1612&src-supplier=Digi-Key; ComponentLink3URL: http://www.ti.com/general/docs/lit/getliterature.tsp?genericPartNumber=LDC1614&&fileType=pdf&src-supplier=Avnet; ComponentLink3Description: http://www.ti.com/general/docs/lit/getliterature.tsp?genericPartNumber=LDC1614&&fileType=pdf&src-supplier=Avnet; ComponentLink4URL: http://www.ti.com/lit/gpn/ldc1612?src-supplier=Mouser; ComponentLink4Description: http://www.ti.com/lit/gpn/ldc1612?src-supplier=Mouser; LCSC Part#: C1847959
footprint LDC1612
pins: 1 SCL (in), 2 SDA (io), 3 CLKIN (in), 4 ADDR (in), 5 INTB (out), 6 SD (in), 7 VDD (power), 8 GND (power), 9 IN0A (in), 10 IN0B (in), 11 IN1A (in), 12 IN1B (in), 13 DAP

## NX3215SA-32.768KHZ-EXS00A-MU00525
designator XTAL?, comment 32.768kHz
No Description Available; Mfr_Name: NDK; Manufacturer_Part_Number: NX3215SA-32.768KHZ-EXS00A-MU00525; Manufacturer Part Number: MU00525-32.768K; Value: NX3215SA 32.768KHZ EXS00A-MU00525; Copyright: Copyright (C) 2023 Ultra Librarian. All rights reserved.; RefDes: RefDes; Type: DEV; Supplier: Digi-Key; Supplier Part Number: 644-MU00525-32.768KCT-ND; Manufacturer: NDK; RoHS: No; Stock: 101580; Pricing: 1=0.72, 10=0.601, 50=0.5408, 100=0.4808, 500=0.45672, 1000=0.38461 (USD); LCSC Part#: C528987
footprint XTAL_NX3215SA-32.768KHZ-EXS00A-MU00525_NDK
pins: 1, 2

## RC0603FR-0760R4L
designator R?, comment 60.4R
Res Thick Film 0603 60.4 Ohm 1% 0.1W(1/10W) ±100ppm/C Pad SMD T/R; Manufacturer: Yageo; Manufacturer Part Number: RC0603FR-0760R4L; Power Rating: 100mW; Voltage Rating: 50V; Temperature Coefficient: 100ppm/°C; Supplier: Digi-Key; Supplier Part Number: 311-60.4HRCT-ND; RoHS: Yes; Category: Chip SMD Resistors; Stock: 143040; Pricing: 1=0.1, 10=0.019, 50=0.0112, 100=0.0093, 500=0.00622, 1000=0.00532 (USD); Case/Package: 0603; Case Code (Imperial): 0603; Case Code (Metric): 1608; Min Operating Temperature: -55°C; Max Operating Temperature: 155°C; Packaging: Tape and Reel; Value: 60.4R; Tolerance: 1%; Termination: SMD/SMT; Voltage Rating (DC): 50V; Features: Moisture Resistant; Series: RC; Max Power Dissipation: 100mW; Number of Terminations: 2; Length: 1.6mm; Width: 0.8mm; Height: 0.45mm; Lead Free: Lead Free; RoHS Compliant: Yes; ComponentLink1URL: https://datasheet.ciiva.com/12558/rc0603-272842-12558933.pdf?src-supplier=Mouser; ComponentLink1Description: https://datasheet.ciiva.com/12558/rc0603-272842-12558933.pdf?src-supplier=Mouser; LCSC Part#: C245987
footprint R0603
pins: 1, 2

## RC0603JR-0710KL
designator R?, comment 10k
SMD Chip Resistor, 10 kOhm, ± 5%, 100 mW, 0603 [1608 Metric], Thick Film, General Purpose; Manufacturer: Yageo; Manufacturer Part Number: RC0603JR-0710KL; Value: 10kR; Temperature Coefficient: 100ppm/°C; Max Power Dissipation: 100mW; Voltage Rating (AC): 50V; Supplier: Digi-Key; Supplier Part Number: 311-10KGRCT-ND; RoHS: Yes; Category: Chip SMD Resistors; Stock: 3736571; Pricing: 1=0.1, 10=0.015, 50=0.0092, 100=0.0076, 500=0.00512, 1000=0.00437 (USD); Case/Package: 0603; Min Operating Temperature: -55°C; Max Operating Temperature: 155°C; Tolerance: 5%; Number of Terminations: 2; Series: RC; Reach SVHC Compliant: 4187SVHC; RoHS Compliant: Yes; ComponentLink1URL: https://datasheet.ciiva.com/2452/pyu-rc-group-51-rohs-l-10-2452848.pdf?src-supplier=Digi-Key; ComponentLink1Description: https://datasheet.ciiva.com/2452/pyu-rc-group-51-rohs-l-10-2452848.pdf?src-supplier=Digi-Key; LCSC Part#: C99198
footprint R0603
pins: 1, 2

## RC0603JR-13330RL
designator R?, comment 330R
Res Thick Film 0603 330 Ohm 5% 0.1W(1/10W) ±100ppm/C Pad SMD T/R; Manufacturer: Yageo; Manufacturer Part Number: RC0603JR-13330RL; Temperature Coefficient: 100ppm/°C; Power Rating: 100mW; Voltage Rating: 50V; Supplier: Digi-Key; Supplier Part Number: 13-RC0603JR-13330RLCT-ND; RoHS: Yes; Category: Chip SMD Resistors; Stock: 83710; Pricing: 1=0.1, 10=0.015, 50=0.0092, 100=0.0076, 500=0.00512, 1000=0.00437, 5000=0.00314, 10000=0.00275 (USD); Case/Package: 0603; Contact Plating: Tin,Lead; Case Code (Imperial): 0603; Case Code (Metric): 1608; Min Operating Temperature: -55°C; Max Operating Temperature: 155°C; Value: 330R; Tolerance: 5%; Packaging: Tape and Reel; Termination: SMD/SMT; Series: RC; Length: 1.6mm; Width: 0.8mm; Height: 0.45mm; Lead Free: Lead Free; RoHS Compliant: Yes; ComponentLink1URL: http://www.mouser.com/ds/2/447/RC0603-272842.pdf?src-supplier=Mouser; ComponentLink1Description: http://www.mouser.com/ds/2/447/RC0603-272842.pdf?src-supplier=Mouser; ComponentLink2URL: https://datasheet.octopart.com/RC0603JR-13330RL-Yageo-datasheet-164759695.pdf?src-supplier=Future+Electronics; ComponentLink2Description: https://datasheet.octopart.com/RC0603JR-13330RL-Yageo-datasheet-164759695.pdf?src-supplier=Future+Electronics; ComponentLink3URL: http://www.yageo.com/pdf/PYu-RC0603_51_RoHS_L_4.pdf?src-supplier=Avnet; ComponentLink3Description: http://www.yageo.com/pdf/PYu-RC0603_51_RoHS_L_4.pdf?src-supplier=Avnet; LCSC Part#: C3995110
footprint R0603
pins: 1, 2

## SenseCoil
designator L?, comment Coil for displacement sensing
footprint Coil_4L
pins: 1, 1

## SN65HVD230DR
designator U?, comment 1ch CAN Transceiver  (value not drawn)
EAR99 65HVD230 Cut Tape (CT) CANbus interface driver 3.3V 17mA 72.603129mg 1Mbps; Manufacturer: Texas Instruments; Manufacturer Part Number: SN65HVD230DR; Min Supply Voltage: 3V; Max Supply Voltage: 3.6V; Number of Receivers: 1; Number of I/Os: 2; Slew Rate: 15V/µs; Value: SN65HVD230DR; Supplier: Digi-Key; Supplier Part Number: 296-11654-6-ND; RoHS: Yes; Category: Interface ICs; Stock: 82408; Pricing: 1=2.5, 10=2.248, 25=2.1208, 100=1.8071, 250=1.6968, 500=1.4847, 1000=1.23018 (USD); Case/Package: D; Pins: 8; Weight: 0.002561oz; Min Operating Temperature: -40°C; Max Operating Temperature: 85°C; Data Rate: 1Mbps; Packaging: Tape and Reel; Package Quantity: 1; Operating Supply Voltage: 3.3V; Number of Transceivers: 1; Number of Drivers: 1; Series: -; Supply Current: 17mA; Number of Transmit Buffers: 1; Number of Receive Buffers: 1; Termination: SMD/SMT; Length: 4.9mm; Width: 3.91mm; Height: 1.75mm; Thickness: 1.58mm; Radiation Hardening: No; Lead Free: Lead Free; RoHS Compliant: Yes; Reach SVHC Compliant: No; ComponentLink1URL: https://datasheet.ciiva.com/3303/slos346k-3303008.pdf?src-supplier=Avnet; ComponentLink1Description: https://datasheet.ciiva.com/3303/slos346k-3303008.pdf?src-supplier=Avnet; ComponentLink2URL: https://datasheet.ciiva.com/28652/1695240-28652369.pdf?src-supplier=Element14; ComponentLink2Description: https://datasheet.ciiva.com/28652/1695240-28652369.pdf?src-supplier=Element14; ComponentLink3URL: https://datasheet.ciiva.com/4781/sn65hvd230-86923-4781328.pdf?src-supplier=Mouser; ComponentLink3Description: https://datasheet.ciiva.com/4781/sn65hvd230-86923-4781328.pdf?src-supplier=Mouser; ComponentLink4URL: https://datasheet.ciiva.com/27052/1495682-27052294.pdf?src-supplier=Jameco; ComponentLink4Description: https://datasheet.ciiva.com/27052/1495682-27052294.pdf?src-supplier=Jameco; ComponentLink5URL: https://datasheet.ciiva.com/1705/sn65hvd230-1705286.pdf?src-supplier=Digi-Key; ComponentLink5Description: https://datasheet.ciiva.com/1705/sn65hvd230-1705286.pdf?src-supplier=Digi-Key; ComponentLink6URL: https://datasheet.ciiva.com/1705/sn65hvd230-1705287.pdf?src-supplier=Digi-Key; ComponentLink6Description: https://datasheet.ciiva.com/1705/sn65hvd230-1705287.pdf?src-supplier=Digi-Key; ComponentLink7URL: https://datasheet.ciiva.com/1705/sn65hvd230-1705288.pdf?src-supplier=Digi-Key; ComponentLink7Description: https://datasheet.ciiva.com/1705/sn65hvd230-1705288.pdf?src-supplier=Digi-Key; ComponentLink8URL: https://datasheet.ciiva.com/22694/1887486-22694362.pdf?src-supplier=Element14; ComponentLink8Description: https://datasheet.ciiva.com/22694/1887486-22694362.pdf?src-supplier=Element14; ComponentLink9URL: https://datasheet.ciiva.com/15150/getdatasheetpartid-393721-15150028.pdf?src-supplier=Verical; ComponentLink9Description: https://datasheet.ciiva.com/15150/getdatasheetpartid-393721-15150028.pdf?src-supplier=Verical; LCSC Part#: C12084
footprint SOIC_8
pins: 1 D (in), 2 GND (power), 3 VCC (power), 4 R (in), 5 VREF (power), 6 CANL (io), 7 CANH (io), 8 RS (in)

## STM32F042F6P6
designator U?
MCU 32-Bit STM32F ARM Cortex M0 RISC 32KB Flash 2.5V/3.3V 20-Pin TSSOP Tube; Mfr_Name: STMicroelectronics; Interface: I2C,SPI,USB,HDMI,IrDA,UART,USART,CAN; Number of I/Os: 16; Oscillator Type: Internal; Peripherals: POR,PWM,WDT,DMA; RAM Size: 6KB; Min Supply Voltage: 2V; Max Supply Voltage: 3.6V; Data Bus Width: 32b; Clock Frequency: 48MHz; Number of ADC Channels: 12; Nominal Supply Current: 1.7uA; Number of A/D Converters: 1NUMBER; Number of Channels: 9NUMBER; Copyright: Copyright (C) 2023 Ultra Librarian. All rights reserved.; Manufacturer_Part_Number: STM32F042F6P6; RefDes: RefDes; Type: DEV; Supplier: Digi-Key; Supplier Part Number: 497-17344-ND; Manufacturer: STMicroelectronics; Manufacturer Part Number: STM32F042F6P6; RoHS: Yes; Category: Microcontrollers; Stock: 1744; Pricing: 1=3.08, 10=2.769, 25=2.618, 100=2.2689, 250=2.15252, 500=1.93144, 1000=1.62893, 2500=1.54748, 5000=1.48931 (USD); Mounting Technology: Surface Mount; Case/Package: TSSOP; Pins: 20; Weight: 0.006737oz; Min Operating Temperature: -40°C; Max Operating Temperature: 85°C; Packaging: Rail/Tube; Series: STM32F0; Memory Format: FLASH; Memory Size: 32KB; Package Quantity: 1480; Core Architecture: ARM; RoHS Compliant: Yes; Lead Free: Lead Free; ComponentLink1URL: http://www.mouser.com/ds/2/389/stm32f042c4-956225.pdf?src-supplier=Mouser; ComponentLink1Description: http://www.mouser.com/ds/2/389/stm32f042c4-956225.pdf?src-supplier=Mouser; ComponentLink2URL: http://www.farnell.com/datasheets/1886881.pdf?src-supplier=Element14; ComponentLink2Description: http://www.farnell.com/datasheets/1886881.pdf?src-supplier=Element14; ComponentLink3URL: http://www.farnell.com/datasheets/1886881.pdf?src-supplier=Newark; ComponentLink3Description: http://www.farnell.com/datasheets/1886881.pdf?src-supplier=Newark; ComponentLink4URL: http://www.st.com/content/ccc/resource/technical/document/datasheet/52/ad/d0/80/e6/be/40/ad/DM00105814.pdf/files/DM00105814.pdf/jcr:content/translations/en.DM00105814.pdf?src-supplier=Digi-Key; ComponentLink4Description: http://www.st.com/content/ccc/resource/technical/document/datasheet/52/ad/d0/80/e6/be/40/ad/DM00105814.pdf/files/DM00105814.pdf/jcr:content/translations/en.DM00105814.pdf?src-supplier=Digi-Key
footprint TSSOP20
part A pins: 1 PB8-BOOT0 (io), 2 PF0-OSC_IN (io), 3 PF1-OSC_OUT (io), 4 NRST (io), 6 PA0 (io), 7 PA1 (io), 8 PA2 (io), 9 PA3 (io), 10 PA4 (io), 11 PA5 (io), 12 PA6 (io), 13 PA7 (io), 14 PB1 (io), 17 PA9/PA11 (io), 18 PA10/PA12 (io), 19 PA13 (io), 20 PA14 (io)
part B pins: 5 VDDA (power), 15 VSS (power), 16 VDD (power)

## STM32F042K6T7
designator U?
ARM® Cortex®-M0 STM32 F0 Microcontroller IC 32-Bit 48MHz 32KB (32K x 8) FLASH 32-LQFP (7x7); Mfr_Name: STMicroelectronics; RAM Size: 6KB; Max Power Dissipation: 351mW; Interface: I2C,SPI,USB,CAN,HDMI,IrDA,UART,USART,LIN,I2S; Number of I/Os: 26; Number of Timers/Counters: 6; Oscillator Type: Internal; Data Bus Width: 32b; Min Supply Voltage: 2V; Max Supply Voltage: 3.6V; Watchdog Timer: Yes; Peripherals: POR,PWM,WDT,DMA; Core Architecture: ARM; Copyright: Copyright (C) 2023 Ultra Librarian. All rights reserved.; Manufacturer_Part_Number: STM32F042K6T7; RefDes: RefDes; Type: DEV; Supplier: Digi-Key; Supplier Part Number: 497-18516-ND; Manufacturer: STMicroelectronics; Manufacturer Part Number: STM32F042K6T7; RoHS: Yes; Category: Microcontrollers; Stock: 2881; Pricing: 1=4.08, 10=3.669, 25=3.4684, 80=3.00588, 250=2.85172, 500=2.55882, 1000=2.15805, 2500=2.05014, 5000=1.97307 (USD); Case/Package: LQFP; Pins: 32; Min Operating Temperature: -40°C; Max Operating Temperature: 105°C; Packaging: Tray; Frequency: 48MHz; Number of Programmable I/O: 26; Clock Frequency: 48MHz; Memory Format: FLASH; Memory Size: 32KB; Series: STM32 F0; Radiation Hardening: No; Reach SVHC Compliant: No; Lead Free: Lead Free; RoHS Compliant: Yes; ComponentLink1URL: http://www.farnell.com/datasheets/2281753.pdf?src-supplier=Farnell; ComponentLink1Description: http://www.farnell.com/datasheets/2281753.pdf?src-supplier=Farnell; ComponentLink2URL: http://www.mouser.com/ds/2/389/stm32f042c4-956225.pdf?src-supplier=Mouser; ComponentLink2Description: http://www.mouser.com/ds/2/389/stm32f042c4-956225.pdf?src-supplier=Mouser; ComponentLink3URL: http://www.st.com/content/ccc/resource/technical/document/datasheet/52/ad/d0/80/e6/be/40/ad/DM00105814.pdf/files/DM00105814.pdf/jcr:content/translations/en.DM00105814.pdf?src-supplier=Digi-Key; ComponentLink3Description: http://www.st.com/content/ccc/resource/technical/document/datasheet/52/ad/d0/80/e6/be/40/ad/DM00105814.pdf/files/DM00105814.pdf/jcr:content/translations/en.DM00105814.pdf?src-supplier=Digi-Key; ComponentLink4URL: http://www.st.com/st-web-ui/static/active/en/resource/technical/document/datasheet/DM00105814.pdf?src-supplier=Avnet; ComponentLink4Description: http://www.st.com/st-web-ui/static/active/en/resource/technical/document/datasheet/DM00105814.pdf?src-supplier=Avnet; ComponentLink5URL: http://www.farnell.com/datasheets/1886881.pdf?src-supplier=Element14; ComponentLink5Description: http://www.farnell.com/datasheets/1886881.pdf?src-supplier=Element14; ComponentLink6URL: http://www.farnell.com/datasheets/2281753.pdf?src-supplier=Newark; ComponentLink6Description: http://www.farnell.com/datasheets/2281753.pdf?src-supplier=Newark; ComponentLink7URL: https://datasheet.octopart.com/STM32F042K6T7-STMicroelectronics-datasheet-62336640.pdf?src-supplier=LKR; ComponentLink7Description: https://datasheet.octopart.com/STM32F042K6T7-STMicroelectronics-datasheet-62336640.pdf?src-supplier=LKR; ComponentLink8URL: https://datasheet.octopart.com/STM32F042K6T7-STMicroelectronics-datasheet-82511004.pdf?src-supplier=SHENGYU+ELECTRONICS; ComponentLink8Description: https://datasheet.octopart.com/STM32F042K6T7-STMicroelectronics-datasheet-82511004.pdf?src-supplier=SHENGYU+ELECTRONICS; LCSC Part#: C1337340; Value: STM32F042K6T7
footprint LQFP-32
part A pins: 2 PF0-OSC_IN (io), 3 PF1-OSC_OUT (io), 4 NRST (io), 6 PA0 (io), 7 PA1 (io), 8 PA2 (io), 9 PA3 (io), 10 PA4 (io), 11 PA5 (io), 12 PA6 (io), 13 PA7 (io), 14 PB0 (io), 15 PB1 (io), 18 PA8 (io), 19 PA9 (io), 20 PA10 (io), 21 PA11 (io), 22 PA12 (io), 23 PA13 (io), 24 PA14 (io), 25 PA15 (io), 26 PB3 (io), 27 PB4 (io), 28 PB5 (io), 29 PB6 (io), 30 PB7 (io), 31 PB8-BOOT0 (io)
part B pins: 1 VDD (power), 5 VDDA (power), 16 VSS (power), 17 VDDIO2 (power), 32 VSS (power)